# Altium schematic symbol library Opto.SchLib: 8 symbols
Pins are listed as number, name and electrical type; pins without a type are passive.

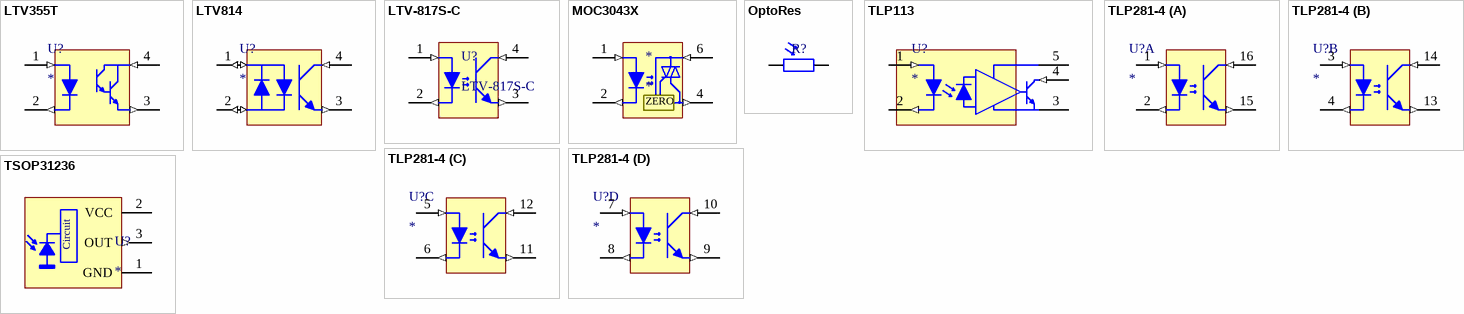
[diagram p0: symbols LTV355T to TSOP31236]

## LTV355T
designator U?
footprint LTV355T
pins: 1 (in), 2 (out), 3 (out), 4 (in)

## LTV814
designator U?
footprint LTV814
pins: 1 (io), 2 (io), 3 (out), 4 (in)

## LTV-817S-C
designator U?
Transoptor; SMD; Kanały:1; Wyj: tranzystorowe; Uizol:5kV; Uce:35
footprint LTV-817
pins: 1 (in), 2 (out), 3 (out), 4 (in)

## MOC3043X
designator *
footprint DIP-6
pins: 1 (in), 2 (out), 4 (out), 6 (in)
text: ZERO

## OptoRes
designator R?
Resistor
footprint OptoRes
pins: 1, 2

## TLP113
designator U?
footprint TLP113
pins: 1 (in), 2 (out), 3 (power), 4 (in), 5 (power)

## TLP281-4
designator U?
footprint TLP281-4
part A pins: 1 (in), 2 (out), 15 3 (out), 16 4 (in)
part B pins: 3 1 (in), 4 2 (out), 13 3 (out), 14 4 (in)
part C pins: 5 1 (in), 6 2 (out), 11 3 (out), 12 4 (in)
part D pins: 7 1 (in), 8 2 (out), 9 3 (out), 10 4 (in)

## TSOP31236
designator U?
footprint TSOP31236
pins: 1 GND (power), 2 VCC (power), 3 OUT (out)
text: Circuit